# Altium footprint library [1] Main.PcbLib: 19 footprints (part 2 of 2)
Each footprint in its own frame and in the unit in brackets; x right, y up, seen from the top. Pads: shape width x height; smd on the part's side, far side on the other; paste and mask are expansions set on the pad; w line width, h text height; cw(c..) or ccw(c..) is an arc to the next point about the centre after c.
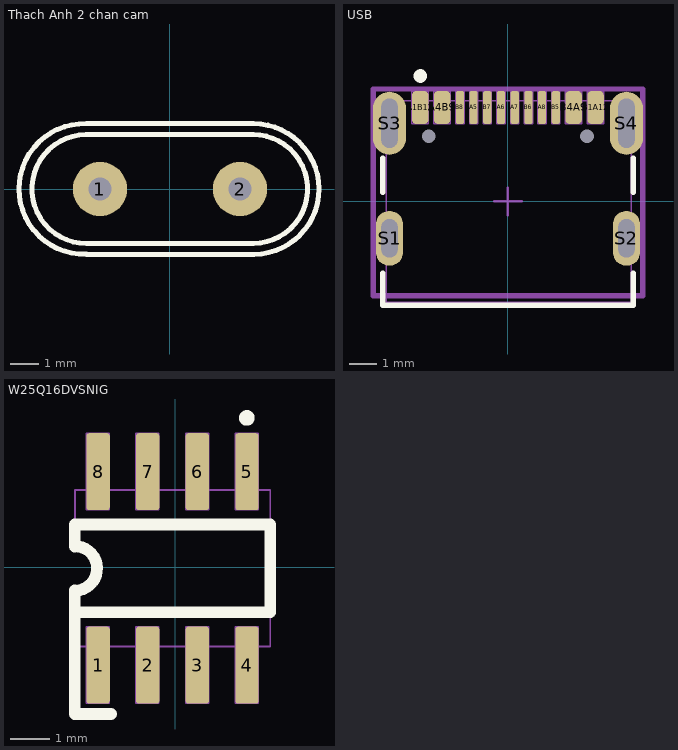
[diagram p1: the footprints below, top view; thin cyan lines are the x and y axes]

## Thach Anh 2 chan cam [mm]
pads (2):
  round 1.905 hole 0.8: 1(-2.45,0) 2(2.45,0)
Top Overlay:
  lines w0.178: -2.939,1.905 ccw(c-2.927,0) -2.921,-1.905 2.921,-1.905 ccw(c2.908,0) 2.903,1.905 ; -2.922,-2.283 cw(c-2.998,0.001) -2.921,2.286 2.921,2.286 cw(c2.928,0) 2.943,-2.286 ; -2.921,-2.286 2.921,-2.286 ; -2.921,1.905 2.921,1.905
3D body "SW3dPS-HP49US.STEP": height 3.5, standoff -4, extent -5.675,-2.364 5.675,2.286

## USB [mm]
pads (18):
  rrect50% 0.6x1.2 smd paste+0 mask+0: A1B12(-3.2,3.425) A4B9(-2.4,3.425) B1A12(3.2,3.425) B4A9(2.4,3.425)
  rrect50% 0.3x1.2 smd paste+0 mask+0: A5(-1.25,3.425) A6(-0.25,3.425) A7(0.25,3.425) A8(1.25,3.425) B5(1.75,3.425) B6(0.75,3.425) B7(-0.75,3.425) B8(-1.75,3.425)
  rrect100% 1x2 hole 1.4 slot 0.6 at 0 deg paste-2539.97 mask+0: S1(-4.32,-1.35) S2(4.33,-1.35)
  rrect100% 1.2x2.3 hole 1.8 slot 0.6 at 0 deg paste-2539.97 mask+0: S3(-4.32,2.85) S4(4.33,2.85)
  round 0 hole 0.5 paste-2539.97 mask+0: ""(-2.89,2.375)
  rrect0% 0x0 hole 0.5 paste-2539.97 mask+0: ""(2.89,2.375)
Top Overlay:
  circle w0.25: c-3.195,4.575 r0.125
  lines w0.2: -4.57,-2.625 -4.57,-3.8 4.57,-3.8 4.57,-2.625 ; -4.57,0.325 -4.57,1.575 ; 4.57,0.325 4.57,1.575
Mechanical 2:
  lines w0.05: -4.445,-3.675 4.495,-3.675 4.495,3.675 -4.445,3.675 -4.445,-3.675 ; -3.5,2.825 -2.9,2.825 -2.9,4.025 -3.5,4.025 -3.5,2.825 ; -2.7,2.825 -2.1,2.825 -2.1,4.025 -2.7,4.025 -2.7,2.825 ; -1.9,2.825 -1.6,2.825 -1.6,4.025 -1.9,4.025 -1.9,2.825 ; -1.4,2.825 -1.1,2.825 -1.1,4.025 -1.4,4.025 -1.4,2.825 ; -0.9,2.825 -0.6,2.825 -0.6,4.025 -0.9,4.025 -0.9,2.825 ; -0.4,2.825 -0.1,2.825 -0.1,4.025 -0.4,4.025 -0.4,2.825 ; 0.1,2.825 0.4,2.825 0.4,4.025 0.1,4.025 0.1,2.825 ; 0.6,2.825 0.9,2.825 0.9,4.025 0.6,4.025 0.6,2.825 ; 1.1,2.825 1.4,2.825 1.4,4.025 1.1,4.025 1.1,2.825 ; 1.6,2.825 1.9,2.825 1.9,4.025 1.6,4.025 1.6,2.825 ; 2.1,2.825 2.7,2.825 2.7,4.025 2.1,4.025 2.1,2.825 ; 2.9,2.825 3.5,2.825 3.5,4.025 2.9,4.025 2.9,2.825
  text ".Designator" at 0,0.512 h1
Top Courtyard:
  lines w0.2: -4.92,-3.45 4.92,-3.45 4.92,4.1 -4.92,4.1 -4.92,-3.45
Top Assembly:
  lines w0.2: -4.92,-3.45 4.92,-3.45 4.92,4.1 -4.92,4.1 -4.92,-3.45
Top Component Center:
  lines w0.1: -0.5,0 0.5,0 ; 0,-0.5 0,0.5
3D body "Conn_Molex_2171790001_eec.STEP": height 3.36, standoff -0.81, extent -4.47,-3.25 4.47,3.5

## W25Q16DVSNIG [mm]
pads (8):
  rrect25% 0.6x1.97 smd: 1(-1.98,-2.5) 2(-0.71,-2.5) 3(0.56,-2.5) 4(1.83,-2.5) 5(1.83,2.45) 6(0.56,2.45) 7(-0.71,2.45) 8(-1.98,2.45)
Top Overlay:
  circle w0.2: c1.825,3.825 r0.1
  lines w0.3: -2.575,-0.588 -2.575,-1.15 ; -2.575,0.537 -2.575,1.1 2.425,1.1 2.425,-1.15 -2.575,-1.15 ; -2.575,0.545 cw(c-2.575,-0.025) -2.55,-0.595 ; -1.65,-3.75 -2.575,-3.75 -2.575,-1.15
Mechanical 2:
  lines w0.05: -2.575,-0.595 -2.575,-1.025 -2.575,-2.025 2.425,-2.025 2.425,1.975 -2.575,1.975 -2.575,0.975 -2.575,0.545 cw(c-2.575,-0.025) -2.55,-0.595 ; -2.275,-3.475 -2.275,-1.525 -1.7,-1.525 -1.7,-3.475 -2.275,-3.475 ; -2.275,1.475 -2.275,3.425 -1.7,3.425 -1.7,1.475 -2.275,1.475 ; -1.005,-3.475 -1.005,-1.525 -0.43,-1.525 -0.43,-3.475 -1.005,-3.475 ; -1.005,1.475 -1.005,3.425 -0.43,3.425 -0.43,1.475 -1.005,1.475 ; 0.265,-3.475 0.265,-1.525 0.84,-1.525 0.84,-3.475 0.265,-3.475 ; 0.265,1.475 0.265,3.425 0.84,3.425 0.84,1.475 0.265,1.475 ; 1.535,-3.475 1.535,-1.525 2.11,-1.525 2.11,-3.475 1.535,-3.475 ; 1.535,1.475 1.535,3.425 2.11,3.425 2.11,1.475 1.535,1.475
3D body "step_temp.STEP": height 1.75, standoff 0, extent -2.5,-3.025 2.35,2.975